# Altium footprint library SOD-123.PcbLib: 1 footprints
Each footprint in its own frame and in the unit in brackets; x right, y up, seen from the top. Pads: shape width x height; smd on the part's side, far side on the other; paste and mask are expansions set on the pad; w line width, h text height; cw(c..) or ccw(c..) is an arc to the next point about the centre after c.
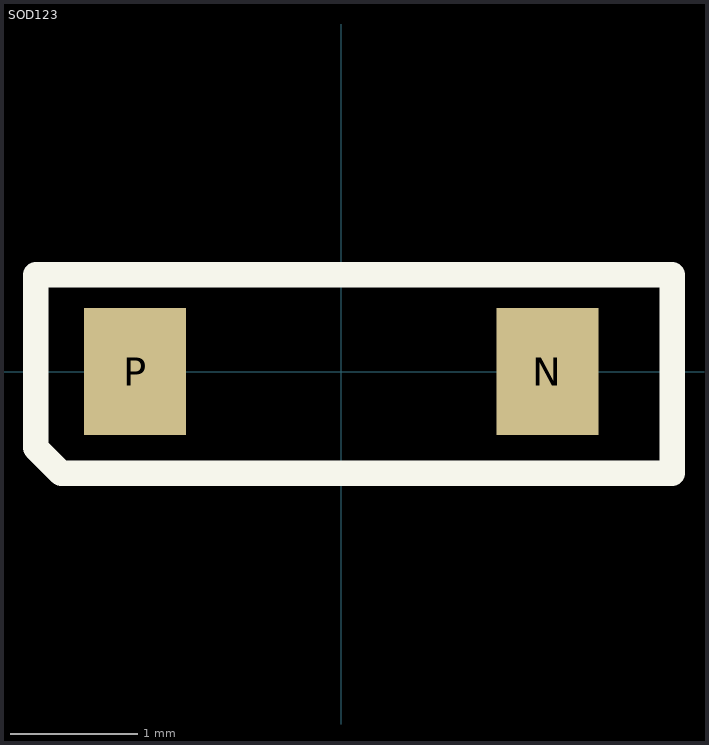
[diagram p0: the footprint, top view; thin cyan lines are the x and y axes]

## SOD123 [mm]
pads (2):
  rect 0.8x1 smd: N(1.62,0) P(-1.62,0)
Top Overlay:
  lines w0.2: -2.4,-0.6 -2.4,0.762 2.6,0.762 2.6,-0.8 -2.2,-0.8 -2.4,-0.6